# EAGLE library part 8X3HEADER (library Shared Libraries)
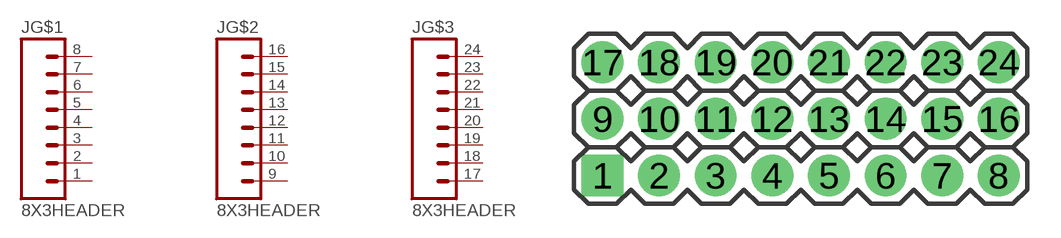
[diagram p6: symbol with the pads of 8X3_100MIL; footprint 8X3_100MIL]

Designator prefix J; gates G$1=M08 G$2=M08 G$3=M08

## 8X3HEADER  [8X3_100MIL]
1  G$1:1  pas
2  G$1:2  pas
3  G$1:3  pas
4  G$1:4  pas
5  G$1:5  pas
6  G$1:6  pas
7  G$1:7  pas
8  G$1:8  pas
9  G$2:1  pas
10  G$2:2  pas
11  G$2:3  pas
12  G$2:4  pas
13  G$2:5  pas
14  G$2:6  pas
15  G$2:7  pas
16  G$2:8  pas
17  G$3:1  pas
18  G$3:2  pas
19  G$3:3  pas
20  G$3:4  pas
21  G$3:5  pas
22  G$3:6  pas
23  G$3:7  pas
24  G$3:8  pas

## Footprint 8X3_100MIL (pad centres in mm)
drill 1.016 pad 1.88 square: 1 0,0
drill 1.016 pad 1.88: 2 2.54,0; 3 5.08,0; 4 7.62,0; 5 10.16,0; 6 12.7,0; 7 15.24,0; 8 17.78,0; 9 0,2.54; 10 2.54,2.54; 11 5.08,2.54; 12 7.62,2.54; 13 10.16,2.54; 14 12.7,2.54; 15 15.24,2.54; 16 17.78,2.54; 17 0,5.08; 18 2.54,5.08; 19 5.08,5.08; 20 7.62,5.08; 21 10.16,5.08; 22 12.7,5.08; 23 15.24,5.08; 24 17.78,5.08